# Altium footprint library Relay_SSR.PcbLib: 1 footprints
Each footprint in its own frame and in the unit in brackets; x right, y up, seen from the top. Pads: shape width x height; smd on the part's side, far side on the other; paste and mask are expansions set on the pad; w line width, h text height; cw(c..) or ccw(c..) is an arc to the next point about the centre after c.
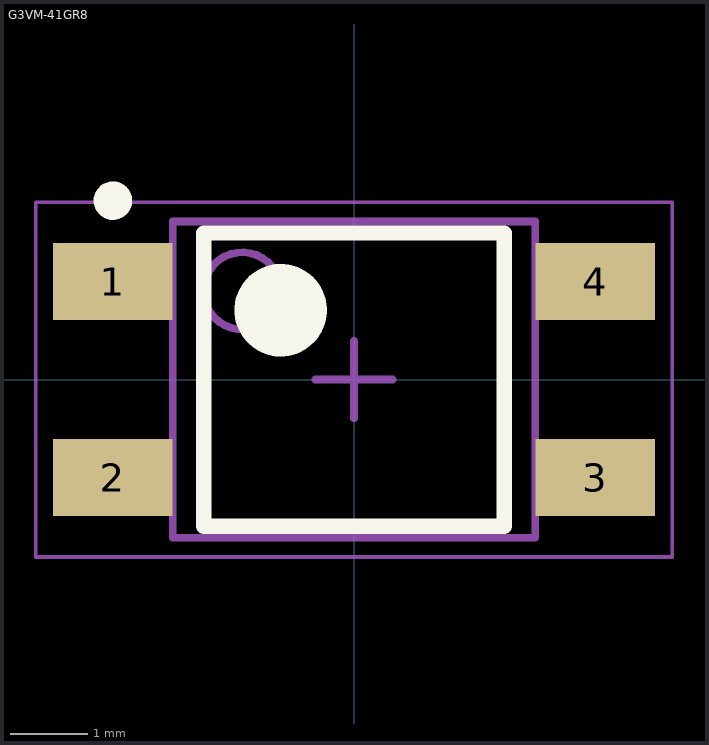
[diagram p0: the footprint, top view; thin cyan lines are the x and y axes]

## G3VM-41GR8 [mm] "SOP, 4-Leads, Body 3.90x4.40mm, Pitch 2.54mm, IPC Medium Density"
height 2.1
pads (4):
  rect 1.55x1 smd: 1(-3.125,1.27) 2(-3.125,-1.27) 3(3.125,-1.27) 4(3.125,1.27)
Top Overlay:
  circle w0.6: c-0.95,0.9 r0.3
  circle w0.25: c-3.125,2.32 r0.125
  lines w0.2: -1.95,-1.9 1.95,-1.9 1.95,1.9 -1.95,1.9 -1.95,-1.9
Mechanical 13:
  circle w0.1: c-1.45,1.15 r0.5
  lines w0.1: -2.35,-2.05 2.35,-2.05 2.35,2.05 -2.35,2.05 -2.35,-2.05
Mechanical 15:
  lines w0.05: -4.125,-2.3 4.125,-2.3 4.125,2.3 -4.125,2.3 -4.125,-2.3
  lines w0.1: -0.5,0 0.5,0 ; 0,-0.5 0,0.5
3D body "G3VM-41GR8.step": height 2.1, standoff 0, extent -3.45,-2.05 3.45,2.05